# Altium footprint library Capacitors Aluminium.PcbLib: 4 footprints
Each footprint in its own frame and in the unit in brackets; x right, y up, seen from the top. Pads: shape width x height; smd on the part's side, far side on the other; paste and mask are expansions set on the pad; w line width, h text height; cw(c..) or ccw(c..) is an arc to the next point about the centre after c.
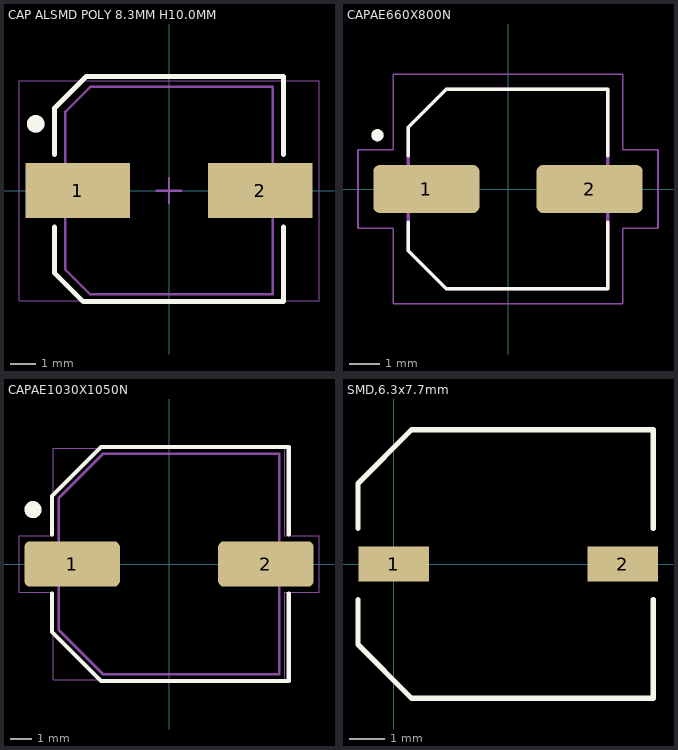
[diagram p0: the footprints below, top view; thin cyan lines are the x and y axes]

## CAP ALSMD POLY 8.3MM H10.0MM [mm] "Aluminum Electrolytic Capacitor, Body 8.30x8.30x10.0mm"
height 10
pads (2):
  rect 4.2x2.2 smd: 1(-3.65,0) 2(3.65,0)
Top Overlay:
  circle w0.5: c-5.334,2.667 r0.1
  lines w0.2: -4.572,-1.45 -4.572,-3.302 -3.429,-4.445 4.572,-4.445 4.572,-1.45 ; -4.572,1.45 -4.572,3.302 -3.302,4.572 4.572,4.572 4.572,1.45
Mechanical 13:
  circle w0.5: c-5.334,2.667 r0.1
  lines w0.1: -4.15,-3.15 -4.15,3.15 -3.15,4.15 4.15,4.15 4.15,-4.15 -3.15,-4.15 -4.15,-3.15
Mechanical 15:
  lines w0.05: -6,-4.4 6,-4.4 6,4.4 -6,4.4 -6,-4.4
  lines w0.1: -0.5,0 0.5,0 ; 0,-0.5 0,0.5
3D body "CAP ALSMD - POLY - 8.3 x 8.3 x 10.0.step": height 10, standoff 0, extent -4.5,-4.15 4.5,4.15

## CAPAE660X800N [mm]
pads (2):
  rrect25% 3.51x1.58 smd: 1(-2.7,0) 2(2.7,0)
Top Overlay:
  circle w0.2: c-4.318,1.778 r0.1
  lines w0.127: -3.3,-1.1 -3.3,-2.04 -2.04,-3.3 3.3,-3.3 3.3,-1.1 ; -3.3,1.1 -3.3,2.04 -2.04,3.3 3.3,3.3 3.3,1.1
Mechanical 13:
  circle w0.2: c-4.318,1.778 r0.1
  lines w0.127: -3.3,-2.04 -2.04,-3.3 3.3,-3.3 3.3,3.3 -2.04,3.3 -3.3,2.04 -3.3,-2.04
Mechanical 15:
  lines w0.05: -4.96,-1.29 -3.8,-1.29 -3.8,-3.8 3.8,-3.8 3.8,-1.29 4.96,-1.29 4.96,1.29 3.8,1.29 3.8,3.8 -3.8,3.8 -3.8,1.29 -4.96,1.29 -4.96,-1.29
3D body "step_temp.STEP": height 8, standoff 0, extent -3.9,-3.3 3.9,3.3

## CAPAE1030X1050N [mm]
pads (2):
  rrect25% 4.46x2.12 smd: 1(-4.525,0) 2(4.525,0)
Top Overlay:
  circle w0.4: c-6.35,2.54 r0.2
  lines w0.2: -5.461,-1.38 -5.461,-3.175 -3.175,-5.461 5.588,-5.461 5.588,-1.38 ; -5.461,1.38 -5.461,3.175 -3.175,5.461 5.588,5.461 5.588,1.38
Mechanical 13:
  circle w0.5: c-6.35,2.54 r0.1
  lines w0.127: -5.15,-3.09 -5.15,3.09 -3.09,5.15 5.15,5.15 5.15,-5.15 -3.09,-5.15 -5.15,-3.09
Mechanical 15:
  lines w0.05: -7.005,-1.31 -7.005,1.31 -5.4,1.31 -5.4,5.4 5.4,5.4 5.4,1.31 7.005,1.31 7.005,-1.31 5.4,-1.31 5.4,-5.4 -5.4,-5.4 -5.4,-1.31 -7.005,-1.31
3D body "CAP ALUM 10_3mm.STEP": height 10.5, standoff 0, extent -5.8,-5.15 5.8,5.15

## SMD,6.3x7.7mm [mm]
height 7.7
pads (2):
  rect 2x1 smd: 1(0,0) 2(6.5,0)
Top Overlay:
  lines w0.15: -1.016,-1.016 -1.016,-2.286 0.508,-3.81 7.366,-3.81 7.366,-1.016 ; -1.016,1.016 -1.016,2.286 0.508,3.81 7.366,3.81 7.366,1.016
3D body "SMD Aluminum Electrolytic Capacitor 6.3x7.7mm.x_t": height 7.7, standoff 0, extent -0.55,-3.3 7.05,3.3